# Altium integrated library National Semiconductor Interface.IntLib: 1433 symbols (part 41 of 51)
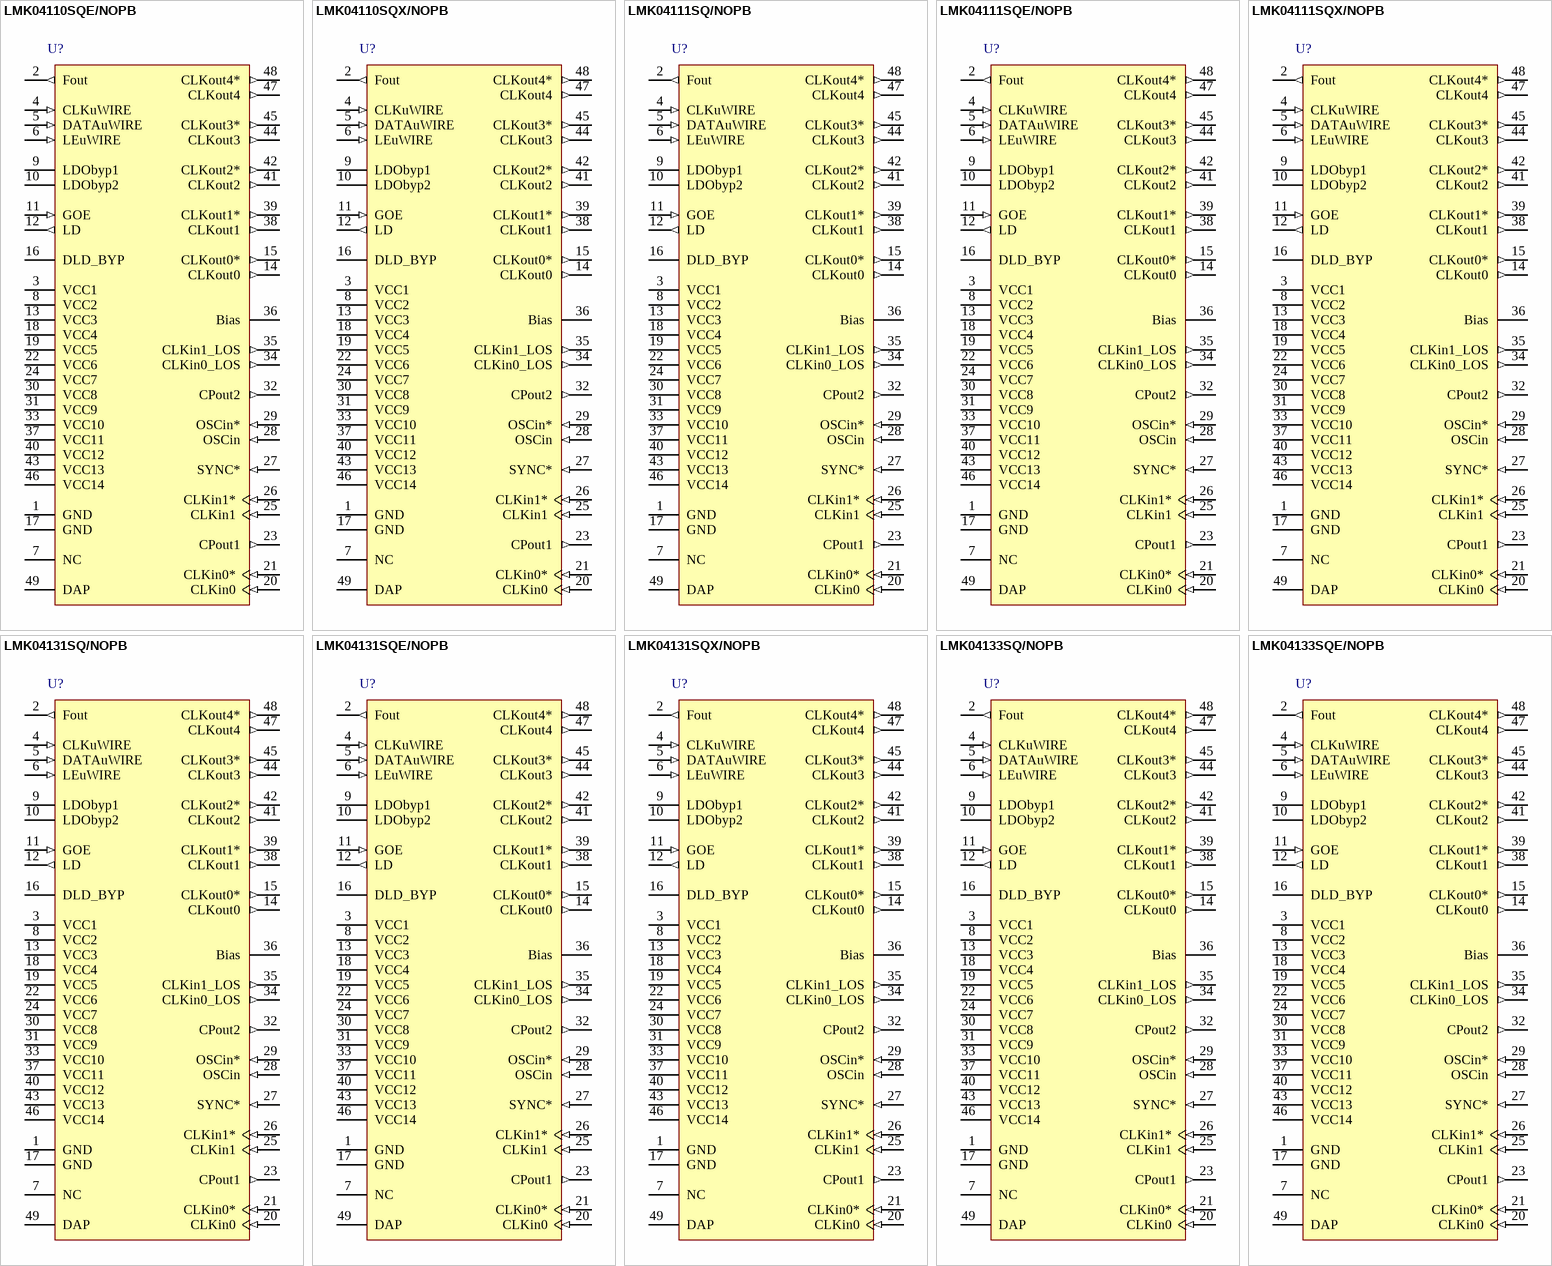
[diagram p164: symbols LMK04110SQE/NOPB to LMK04133SQE/NOPB]

## LMK04110SQE/NOPB
designator U?
Clock Jitter Cleaner with Cascaded PLLs, 1.2 GHz VCO, 48-pin LLP, 250 Reel; PartNumber: LMK04110SQE/NOPB; Manufacturer: National Semiconductor; PackageTopMarking: NS*UZXYTTE#*LMK04110; PowerWise: Y; CompType: Interface IC; DatasheetVersion: Sep-2011; PackageVersion: revB, May-2009; PackageReference: SQA48A; PackageDescription: LLP, Plastic, Quad, 7 x 7 x 0.8mm Body, 48 Lead, 0.5mm Pitch, No Pullback; RoHS: Y; PinCount: 48; High-Reliability: Y; Code_JEDEC: MO-220-WKKD-2; ComponentLink1Description: Manufacturer URL; ComponentLink1URL: http://www.national.com/; ComponentLink2Description: LMK04100 Family Datasheet; ComponentLink2URL: http://www.national.com/ds/LM/LMK04100.pdf; ComponentLink3Description: LMK04110 Web Page; ComponentLink3URL: http://www.national.com/pf/LM/LMK04110.html; ComponentLink4Description: SQA48A Package Page; ComponentLink4URL: http://www.national.com/packaging/folders/sqa48a.html
footprint SQA48A (QFN, 48-Leads, Body 7x7mm, Pitch 0.5mm, Thermal Pad 5.2x5.2mm, NSC Recommended)
pins: 1 GND (power), 2 Fout (out), 3 VCC1 (power), 4 CLKuWIRE (in), 5 DATAuWIRE (in), 6 LEuWIRE (in), 7 NC, 8 VCC2 (power), 9 LDObyp1, 10 LDObyp2, 11 GOE (in), 12 LD (out), 13 VCC3 (power), 14 CLKout0 (out), 15 CLKout0* (out), 16 DLD_BYP, 17 GND (power), 18 VCC4 (power), 19 VCC5 (power), 20 CLKin0 (in), 21 CLKin0* (in), 22 VCC6 (power), 23 CPout1 (out), 24 VCC7 (power), 25 CLKin1 (in), 26 CLKin1* (in), 27 SYNC* (in), 28 OSCin (in), 29 OSCin* (in), 30 VCC8 (power), 31 VCC9 (power), 32 CPout2 (out), 33 VCC10 (power), 34 CLKin0_LOS (out), 35 CLKin1_LOS (out), 36 Bias, 37 VCC11 (power), 38 CLKout1 (out), 39 CLKout1* (out), 40 VCC12 (power), 41 CLKout2 (out), 42 CLKout2* (out), 43 VCC13 (power), 44 CLKout3 (out), 45 CLKout3* (out), 46 VCC14 (power), 47 CLKout4 (out), 48 CLKout4* (out), 49 DAP (power)

## LMK04110SQX/NOPB
designator U?
Clock Jitter Cleaner with Cascaded PLLs, 1.2 GHz VCO, 48-pin LLP, 2500 Reel; PartNumber: LMK04110SQX/NOPB; Manufacturer: National Semiconductor; PackageTopMarking: NS*UZXYTTE#*LMK04110; PowerWise: Y; CompType: Interface IC; DatasheetVersion: Sep-2011; PackageVersion: revB, May-2009; PackageReference: SQA48A; PackageDescription: LLP, Plastic, Quad, 7 x 7 x 0.8mm Body, 48 Lead, 0.5mm Pitch, No Pullback; RoHS: Y; PinCount: 48; High-Reliability: Y; Code_JEDEC: MO-220-WKKD-2; ComponentLink1Description: Manufacturer URL; ComponentLink1URL: http://www.national.com/; ComponentLink2Description: LMK04100 Family Datasheet; ComponentLink2URL: http://www.national.com/ds/LM/LMK04100.pdf; ComponentLink3Description: LMK04110 Web Page; ComponentLink3URL: http://www.national.com/pf/LM/LMK04110.html; ComponentLink4Description: SQA48A Package Page; ComponentLink4URL: http://www.national.com/packaging/folders/sqa48a.html
footprint SQA48A (QFN, 48-Leads, Body 7x7mm, Pitch 0.5mm, Thermal Pad 5.2x5.2mm, NSC Recommended)
pins: 1 GND (power), 2 Fout (out), 3 VCC1 (power), 4 CLKuWIRE (in), 5 DATAuWIRE (in), 6 LEuWIRE (in), 7 NC, 8 VCC2 (power), 9 LDObyp1, 10 LDObyp2, 11 GOE (in), 12 LD (out), 13 VCC3 (power), 14 CLKout0 (out), 15 CLKout0* (out), 16 DLD_BYP, 17 GND (power), 18 VCC4 (power), 19 VCC5 (power), 20 CLKin0 (in), 21 CLKin0* (in), 22 VCC6 (power), 23 CPout1 (out), 24 VCC7 (power), 25 CLKin1 (in), 26 CLKin1* (in), 27 SYNC* (in), 28 OSCin (in), 29 OSCin* (in), 30 VCC8 (power), 31 VCC9 (power), 32 CPout2 (out), 33 VCC10 (power), 34 CLKin0_LOS (out), 35 CLKin1_LOS (out), 36 Bias, 37 VCC11 (power), 38 CLKout1 (out), 39 CLKout1* (out), 40 VCC12 (power), 41 CLKout2 (out), 42 CLKout2* (out), 43 VCC13 (power), 44 CLKout3 (out), 45 CLKout3* (out), 46 VCC14 (power), 47 CLKout4 (out), 48 CLKout4* (out), 49 DAP (power)

## LMK04111SQ/NOPB
designator U?
Clock Jitter Cleaner with Cascaded PLLs, 1.5 GHz VCO, 48-pin LLP, 1000 Reel; PartNumber: LMK04111SQ/NOPB; Manufacturer: National Semiconductor; PackageTopMarking: NS*UZXYTTE#*LMK04111; PowerWise: Y; CompType: Interface IC; DatasheetVersion: Sep-2011; PackageVersion: revB, May-2009; PackageReference: SQA48A; PackageDescription: LLP, Plastic, Quad, 7 x 7 x 0.8mm Body, 48 Lead, 0.5mm Pitch, No Pullback; RoHS: Y; PinCount: 48; High-Reliability: Y; Code_JEDEC: MO-220-WKKD-2; ComponentLink1Description: Manufacturer URL; ComponentLink1URL: http://www.national.com/; ComponentLink2Description: LMK04100 Family Datasheet; ComponentLink2URL: http://www.national.com/ds/LM/LMK04100.pdf; ComponentLink3Description: LMK04111 Web Page; ComponentLink3URL: http://www.national.com/pf/LM/LMK04111.html; ComponentLink4Description: SQA48A Package Page; ComponentLink4URL: http://www.national.com/packaging/folders/sqa48a.html
footprint SQA48A (QFN, 48-Leads, Body 7x7mm, Pitch 0.5mm, Thermal Pad 5.2x5.2mm, NSC Recommended)
pins: 1 GND (power), 2 Fout (out), 3 VCC1 (power), 4 CLKuWIRE (in), 5 DATAuWIRE (in), 6 LEuWIRE (in), 7 NC, 8 VCC2 (power), 9 LDObyp1, 10 LDObyp2, 11 GOE (in), 12 LD (out), 13 VCC3 (power), 14 CLKout0 (out), 15 CLKout0* (out), 16 DLD_BYP, 17 GND (power), 18 VCC4 (power), 19 VCC5 (power), 20 CLKin0 (in), 21 CLKin0* (in), 22 VCC6 (power), 23 CPout1 (out), 24 VCC7 (power), 25 CLKin1 (in), 26 CLKin1* (in), 27 SYNC* (in), 28 OSCin (in), 29 OSCin* (in), 30 VCC8 (power), 31 VCC9 (power), 32 CPout2 (out), 33 VCC10 (power), 34 CLKin0_LOS (out), 35 CLKin1_LOS (out), 36 Bias, 37 VCC11 (power), 38 CLKout1 (out), 39 CLKout1* (out), 40 VCC12 (power), 41 CLKout2 (out), 42 CLKout2* (out), 43 VCC13 (power), 44 CLKout3 (out), 45 CLKout3* (out), 46 VCC14 (power), 47 CLKout4 (out), 48 CLKout4* (out), 49 DAP (power)

## LMK04111SQE/NOPB
designator U?
Clock Jitter Cleaner with Cascaded PLLs, 1.5 GHz VCO, 48-pin LLP, 250 Reel; PartNumber: LMK04111SQE/NOPB; Manufacturer: National Semiconductor; PackageTopMarking: NS*UZXYTTE#*LMK04111; PowerWise: Y; CompType: Interface IC; DatasheetVersion: Sep-2011; PackageVersion: revB, May-2009; PackageReference: SQA48A; PackageDescription: LLP, Plastic, Quad, 7 x 7 x 0.8mm Body, 48 Lead, 0.5mm Pitch, No Pullback; RoHS: Y; PinCount: 48; High-Reliability: Y; Code_JEDEC: MO-220-WKKD-2; ComponentLink1Description: Manufacturer URL; ComponentLink1URL: http://www.national.com/; ComponentLink2Description: LMK04100 Family Datasheet; ComponentLink2URL: http://www.national.com/ds/LM/LMK04100.pdf; ComponentLink3Description: LMK04111 Web Page; ComponentLink3URL: http://www.national.com/pf/LM/LMK04111.html; ComponentLink4Description: SQA48A Package Page; ComponentLink4URL: http://www.national.com/packaging/folders/sqa48a.html
footprint SQA48A (QFN, 48-Leads, Body 7x7mm, Pitch 0.5mm, Thermal Pad 5.2x5.2mm, NSC Recommended)
pins: 1 GND (power), 2 Fout (out), 3 VCC1 (power), 4 CLKuWIRE (in), 5 DATAuWIRE (in), 6 LEuWIRE (in), 7 NC, 8 VCC2 (power), 9 LDObyp1, 10 LDObyp2, 11 GOE (in), 12 LD (out), 13 VCC3 (power), 14 CLKout0 (out), 15 CLKout0* (out), 16 DLD_BYP, 17 GND (power), 18 VCC4 (power), 19 VCC5 (power), 20 CLKin0 (in), 21 CLKin0* (in), 22 VCC6 (power), 23 CPout1 (out), 24 VCC7 (power), 25 CLKin1 (in), 26 CLKin1* (in), 27 SYNC* (in), 28 OSCin (in), 29 OSCin* (in), 30 VCC8 (power), 31 VCC9 (power), 32 CPout2 (out), 33 VCC10 (power), 34 CLKin0_LOS (out), 35 CLKin1_LOS (out), 36 Bias, 37 VCC11 (power), 38 CLKout1 (out), 39 CLKout1* (out), 40 VCC12 (power), 41 CLKout2 (out), 42 CLKout2* (out), 43 VCC13 (power), 44 CLKout3 (out), 45 CLKout3* (out), 46 VCC14 (power), 47 CLKout4 (out), 48 CLKout4* (out), 49 DAP (power)

## LMK04111SQX/NOPB
designator U?
Clock Jitter Cleaner with Cascaded PLLs, 1.5 GHz VCO, 48-pin LLP, 2500 Reel; PartNumber: LMK04111SQX/NOPB; Manufacturer: National Semiconductor; PackageTopMarking: NS*UZXYTTE#*LMK04111; PowerWise: Y; CompType: Interface IC; DatasheetVersion: Sep-2011; PackageVersion: revB, May-2009; PackageReference: SQA48A; PackageDescription: LLP, Plastic, Quad, 7 x 7 x 0.8mm Body, 48 Lead, 0.5mm Pitch, No Pullback; RoHS: Y; PinCount: 48; High-Reliability: Y; Code_JEDEC: MO-220-WKKD-2; ComponentLink1Description: Manufacturer URL; ComponentLink1URL: http://www.national.com/; ComponentLink2Description: LMK04100 Family Datasheet; ComponentLink2URL: http://www.national.com/ds/LM/LMK04100.pdf; ComponentLink3Description: LMK04111 Web Page; ComponentLink3URL: http://www.national.com/pf/LM/LMK04111.html; ComponentLink4Description: SQA48A Package Page; ComponentLink4URL: http://www.national.com/packaging/folders/sqa48a.html
footprint SQA48A (QFN, 48-Leads, Body 7x7mm, Pitch 0.5mm, Thermal Pad 5.2x5.2mm, NSC Recommended)
pins: 1 GND (power), 2 Fout (out), 3 VCC1 (power), 4 CLKuWIRE (in), 5 DATAuWIRE (in), 6 LEuWIRE (in), 7 NC, 8 VCC2 (power), 9 LDObyp1, 10 LDObyp2, 11 GOE (in), 12 LD (out), 13 VCC3 (power), 14 CLKout0 (out), 15 CLKout0* (out), 16 DLD_BYP, 17 GND (power), 18 VCC4 (power), 19 VCC5 (power), 20 CLKin0 (in), 21 CLKin0* (in), 22 VCC6 (power), 23 CPout1 (out), 24 VCC7 (power), 25 CLKin1 (in), 26 CLKin1* (in), 27 SYNC* (in), 28 OSCin (in), 29 OSCin* (in), 30 VCC8 (power), 31 VCC9 (power), 32 CPout2 (out), 33 VCC10 (power), 34 CLKin0_LOS (out), 35 CLKin1_LOS (out), 36 Bias, 37 VCC11 (power), 38 CLKout1 (out), 39 CLKout1* (out), 40 VCC12 (power), 41 CLKout2 (out), 42 CLKout2* (out), 43 VCC13 (power), 44 CLKout3 (out), 45 CLKout3* (out), 46 VCC14 (power), 47 CLKout4 (out), 48 CLKout4* (out), 49 DAP (power)

## LMK04131SQ/NOPB
designator U?
Clock Jitter Cleaner with Cascaded PLLs, 1.5 GHz VCO, 48-pin LLP, 1000 Reel; PartNumber: LMK04131SQ/NOPB; Manufacturer: National Semiconductor; PackageTopMarking: NS*UZXYTTE#*LMK04131; PowerWise: Y; CompType: Interface IC; DatasheetVersion: Sep-2011; PackageVersion: revB, May-2009; PackageReference: SQA48A; PackageDescription: LLP, Plastic, Quad, 7 x 7 x 0.8mm Body, 48 Lead, 0.5mm Pitch, No Pullback; RoHS: Y; PinCount: 48; High-Reliability: Y; Code_JEDEC: MO-220-WKKD-2; ComponentLink1Description: Manufacturer URL; ComponentLink1URL: http://www.national.com/; ComponentLink2Description: LMK04100 Family Datasheet; ComponentLink2URL: http://www.national.com/ds/LM/LMK04100.pdf; ComponentLink3Description: LMK04131 Web Page; ComponentLink3URL: http://www.national.com/pf/LM/LMK04131.html; ComponentLink4Description: SQA48A Package Page; ComponentLink4URL: http://www.national.com/packaging/folders/sqa48a.html
footprint SQA48A (QFN, 48-Leads, Body 7x7mm, Pitch 0.5mm, Thermal Pad 5.2x5.2mm, NSC Recommended)
pins: 1 GND (power), 2 Fout (out), 3 VCC1 (power), 4 CLKuWIRE (in), 5 DATAuWIRE (in), 6 LEuWIRE (in), 7 NC, 8 VCC2 (power), 9 LDObyp1, 10 LDObyp2, 11 GOE (in), 12 LD (out), 13 VCC3 (power), 14 CLKout0 (out), 15 CLKout0* (out), 16 DLD_BYP, 17 GND (power), 18 VCC4 (power), 19 VCC5 (power), 20 CLKin0 (in), 21 CLKin0* (in), 22 VCC6 (power), 23 CPout1 (out), 24 VCC7 (power), 25 CLKin1 (in), 26 CLKin1* (in), 27 SYNC* (in), 28 OSCin (in), 29 OSCin* (in), 30 VCC8 (power), 31 VCC9 (power), 32 CPout2 (out), 33 VCC10 (power), 34 CLKin0_LOS (out), 35 CLKin1_LOS (out), 36 Bias, 37 VCC11 (power), 38 CLKout1 (out), 39 CLKout1* (out), 40 VCC12 (power), 41 CLKout2 (out), 42 CLKout2* (out), 43 VCC13 (power), 44 CLKout3 (out), 45 CLKout3* (out), 46 VCC14 (power), 47 CLKout4 (out), 48 CLKout4* (out), 49 DAP (power)

## LMK04131SQE/NOPB
designator U?
Clock Jitter Cleaner with Cascaded PLLs, 1.5 GHz VCO, 48-pin LLP, 250 Reel; PartNumber: LMK04131SQE/NOPB; Manufacturer: National Semiconductor; PackageTopMarking: NS*UZXYTTE#*LMK04131; PowerWise: Y; CompType: Interface IC; DatasheetVersion: Sep-2011; PackageVersion: revB, May-2009; PackageReference: SQA48A; PackageDescription: LLP, Plastic, Quad, 7 x 7 x 0.8mm Body, 48 Lead, 0.5mm Pitch, No Pullback; RoHS: Y; PinCount: 48; High-Reliability: Y; Code_JEDEC: MO-220-WKKD-2; ComponentLink1Description: Manufacturer URL; ComponentLink1URL: http://www.national.com/; ComponentLink2Description: LMK04100 Family Datasheet; ComponentLink2URL: http://www.national.com/ds/LM/LMK04100.pdf; ComponentLink3Description: LMK04131 Web Page; ComponentLink3URL: http://www.national.com/pf/LM/LMK04131.html; ComponentLink4Description: SQA48A Package Page; ComponentLink4URL: http://www.national.com/packaging/folders/sqa48a.html
footprint SQA48A (QFN, 48-Leads, Body 7x7mm, Pitch 0.5mm, Thermal Pad 5.2x5.2mm, NSC Recommended)
pins: 1 GND (power), 2 Fout (out), 3 VCC1 (power), 4 CLKuWIRE (in), 5 DATAuWIRE (in), 6 LEuWIRE (in), 7 NC, 8 VCC2 (power), 9 LDObyp1, 10 LDObyp2, 11 GOE (in), 12 LD (out), 13 VCC3 (power), 14 CLKout0 (out), 15 CLKout0* (out), 16 DLD_BYP, 17 GND (power), 18 VCC4 (power), 19 VCC5 (power), 20 CLKin0 (in), 21 CLKin0* (in), 22 VCC6 (power), 23 CPout1 (out), 24 VCC7 (power), 25 CLKin1 (in), 26 CLKin1* (in), 27 SYNC* (in), 28 OSCin (in), 29 OSCin* (in), 30 VCC8 (power), 31 VCC9 (power), 32 CPout2 (out), 33 VCC10 (power), 34 CLKin0_LOS (out), 35 CLKin1_LOS (out), 36 Bias, 37 VCC11 (power), 38 CLKout1 (out), 39 CLKout1* (out), 40 VCC12 (power), 41 CLKout2 (out), 42 CLKout2* (out), 43 VCC13 (power), 44 CLKout3 (out), 45 CLKout3* (out), 46 VCC14 (power), 47 CLKout4 (out), 48 CLKout4* (out), 49 DAP (power)

## LMK04131SQX/NOPB
designator U?
Clock Jitter Cleaner with Cascaded PLLs, 1.5 GHz VCO, 48-pin LLP, 2500 Reel; PartNumber: LMK04131SQX/NOPB; Manufacturer: National Semiconductor; PackageTopMarking: NS*UZXYTTE#*LMK04131; PowerWise: Y; CompType: Interface IC; DatasheetVersion: Sep-2011; PackageVersion: revB, May-2009; PackageReference: SQA48A; PackageDescription: LLP, Plastic, Quad, 7 x 7 x 0.8mm Body, 48 Lead, 0.5mm Pitch, No Pullback; RoHS: Y; PinCount: 48; High-Reliability: Y; Code_JEDEC: MO-220-WKKD-2; ComponentLink1Description: Manufacturer URL; ComponentLink1URL: http://www.national.com/; ComponentLink2Description: LMK04100 Family Datasheet; ComponentLink2URL: http://www.national.com/ds/LM/LMK04100.pdf; ComponentLink3Description: LMK04131 Web Page; ComponentLink3URL: http://www.national.com/pf/LM/LMK04131.html; ComponentLink4Description: SQA48A Package Page; ComponentLink4URL: http://www.national.com/packaging/folders/sqa48a.html
footprint SQA48A (QFN, 48-Leads, Body 7x7mm, Pitch 0.5mm, Thermal Pad 5.2x5.2mm, NSC Recommended)
pins: 1 GND (power), 2 Fout (out), 3 VCC1 (power), 4 CLKuWIRE (in), 5 DATAuWIRE (in), 6 LEuWIRE (in), 7 NC, 8 VCC2 (power), 9 LDObyp1, 10 LDObyp2, 11 GOE (in), 12 LD (out), 13 VCC3 (power), 14 CLKout0 (out), 15 CLKout0* (out), 16 DLD_BYP, 17 GND (power), 18 VCC4 (power), 19 VCC5 (power), 20 CLKin0 (in), 21 CLKin0* (in), 22 VCC6 (power), 23 CPout1 (out), 24 VCC7 (power), 25 CLKin1 (in), 26 CLKin1* (in), 27 SYNC* (in), 28 OSCin (in), 29 OSCin* (in), 30 VCC8 (power), 31 VCC9 (power), 32 CPout2 (out), 33 VCC10 (power), 34 CLKin0_LOS (out), 35 CLKin1_LOS (out), 36 Bias, 37 VCC11 (power), 38 CLKout1 (out), 39 CLKout1* (out), 40 VCC12 (power), 41 CLKout2 (out), 42 CLKout2* (out), 43 VCC13 (power), 44 CLKout3 (out), 45 CLKout3* (out), 46 VCC14 (power), 47 CLKout4 (out), 48 CLKout4* (out), 49 DAP (power)

## LMK04133SQ/NOPB
designator U?
Clock Jitter Cleaner with Cascaded PLLs, 2.0 GHz VCO, 48-pin LLP, 1000 Reel; PartNumber: LMK04133SQ/NOPB; Manufacturer: National Semiconductor; PackageTopMarking: NS*UZXYTTE#*LMK04133; PowerWise: Y; CompType: Interface IC; DatasheetVersion: Sep-2011; PackageVersion: revB, May-2009; PackageReference: SQA48A; PackageDescription: LLP, Plastic, Quad, 7 x 7 x 0.8mm Body, 48 Lead, 0.5mm Pitch, No Pullback; RoHS: Y; PinCount: 48; High-Reliability: Y; Code_JEDEC: MO-220-WKKD-2; ComponentLink1Description: Manufacturer URL; ComponentLink1URL: http://www.national.com/; ComponentLink2Description: LMK04100 Family Datasheet; ComponentLink2URL: http://www.national.com/ds/LM/LMK04100.pdf; ComponentLink3Description: LMK04133 Web Page; ComponentLink3URL: http://www.national.com/pf/LM/LMK04133.html; ComponentLink4Description: SQA48A Package Page; ComponentLink4URL: http://www.national.com/packaging/folders/sqa48a.html
footprint SQA48A (QFN, 48-Leads, Body 7x7mm, Pitch 0.5mm, Thermal Pad 5.2x5.2mm, NSC Recommended)
pins: 1 GND (power), 2 Fout (out), 3 VCC1 (power), 4 CLKuWIRE (in), 5 DATAuWIRE (in), 6 LEuWIRE (in), 7 NC, 8 VCC2 (power), 9 LDObyp1, 10 LDObyp2, 11 GOE (in), 12 LD (out), 13 VCC3 (power), 14 CLKout0 (out), 15 CLKout0* (out), 16 DLD_BYP, 17 GND (power), 18 VCC4 (power), 19 VCC5 (power), 20 CLKin0 (in), 21 CLKin0* (in), 22 VCC6 (power), 23 CPout1 (out), 24 VCC7 (power), 25 CLKin1 (in), 26 CLKin1* (in), 27 SYNC* (in), 28 OSCin (in), 29 OSCin* (in), 30 VCC8 (power), 31 VCC9 (power), 32 CPout2 (out), 33 VCC10 (power), 34 CLKin0_LOS (out), 35 CLKin1_LOS (out), 36 Bias, 37 VCC11 (power), 38 CLKout1 (out), 39 CLKout1* (out), 40 VCC12 (power), 41 CLKout2 (out), 42 CLKout2* (out), 43 VCC13 (power), 44 CLKout3 (out), 45 CLKout3* (out), 46 VCC14 (power), 47 CLKout4 (out), 48 CLKout4* (out), 49 DAP (power)

## LMK04133SQE/NOPB
designator U?
Clock Jitter Cleaner with Cascaded PLLs, 2.0 GHz VCO, 48-pin LLP, 250 Reel; PartNumber: LMK04133SQE/NOPB; Manufacturer: National Semiconductor; PackageTopMarking: NS*UZXYTTE#*LMK04133; PowerWise: Y; CompType: Interface IC; DatasheetVersion: Sep-2011; PackageVersion: revB, May-2009; PackageReference: SQA48A; PackageDescription: LLP, Plastic, Quad, 7 x 7 x 0.8mm Body, 48 Lead, 0.5mm Pitch, No Pullback; RoHS: Y; PinCount: 48; High-Reliability: Y; Code_JEDEC: MO-220-WKKD-2; ComponentLink1Description: Manufacturer URL; ComponentLink1URL: http://www.national.com/; ComponentLink2Description: LMK04100 Family Datasheet; ComponentLink2URL: http://www.national.com/ds/LM/LMK04100.pdf; ComponentLink3Description: LMK04133 Web Page; ComponentLink3URL: http://www.national.com/pf/LM/LMK04133.html; ComponentLink4Description: SQA48A Package Page; ComponentLink4URL: http://www.national.com/packaging/folders/sqa48a.html
footprint SQA48A (QFN, 48-Leads, Body 7x7mm, Pitch 0.5mm, Thermal Pad 5.2x5.2mm, NSC Recommended)
pins: 1 GND (power), 2 Fout (out), 3 VCC1 (power), 4 CLKuWIRE (in), 5 DATAuWIRE (in), 6 LEuWIRE (in), 7 NC, 8 VCC2 (power), 9 LDObyp1, 10 LDObyp2, 11 GOE (in), 12 LD (out), 13 VCC3 (power), 14 CLKout0 (out), 15 CLKout0* (out), 16 DLD_BYP, 17 GND (power), 18 VCC4 (power), 19 VCC5 (power), 20 CLKin0 (in), 21 CLKin0* (in), 22 VCC6 (power), 23 CPout1 (out), 24 VCC7 (power), 25 CLKin1 (in), 26 CLKin1* (in), 27 SYNC* (in), 28 OSCin (in), 29 OSCin* (in), 30 VCC8 (power), 31 VCC9 (power), 32 CPout2 (out), 33 VCC10 (power), 34 CLKin0_LOS (out), 35 CLKin1_LOS (out), 36 Bias, 37 VCC11 (power), 38 CLKout1 (out), 39 CLKout1* (out), 40 VCC12 (power), 41 CLKout2 (out), 42 CLKout2* (out), 43 VCC13 (power), 44 CLKout3 (out), 45 CLKout3* (out), 46 VCC14 (power), 47 CLKout4 (out), 48 CLKout4* (out), 49 DAP (power)

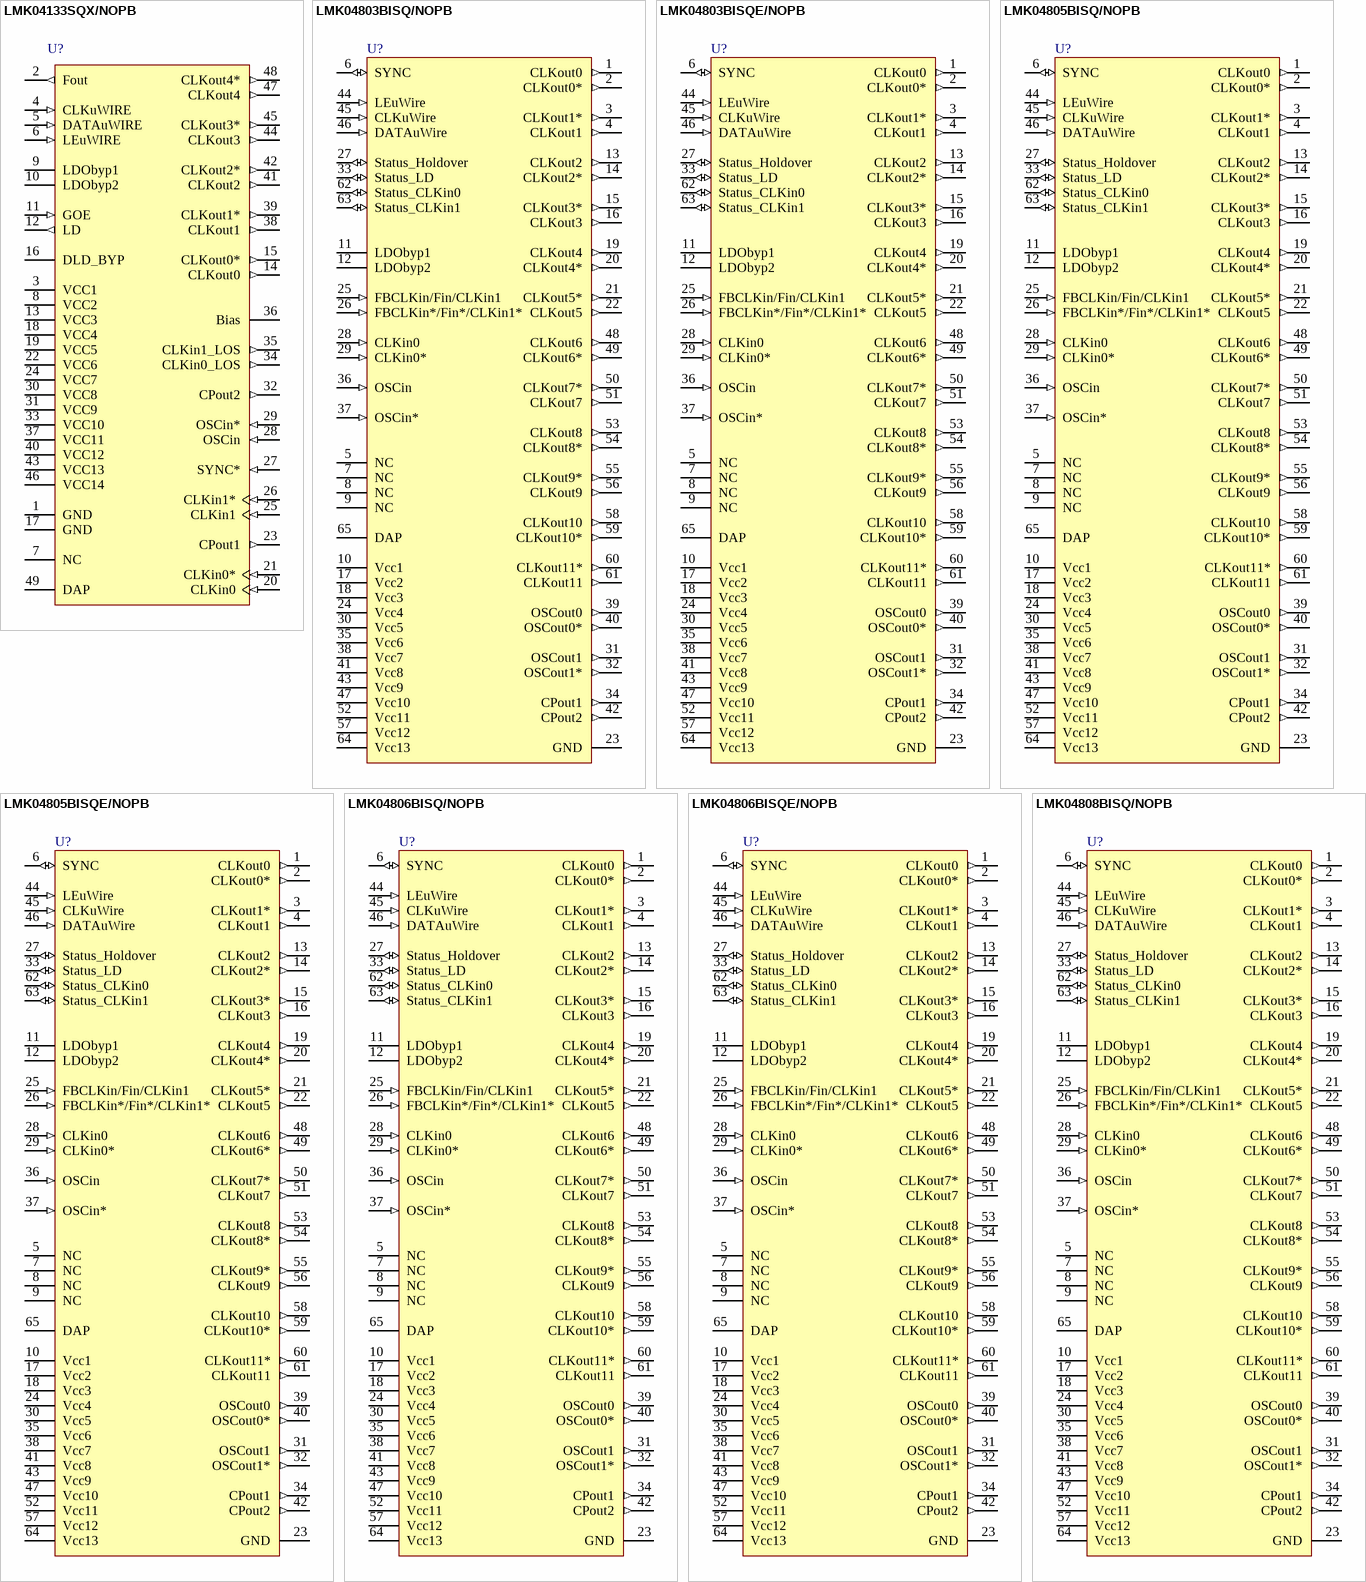
[diagram p102: symbols LMK04133SQX/NOPB to LMK04808BISQ/NOPB]

## LMK04133SQX/NOPB
designator U?
Clock Jitter Cleaner with Cascaded PLLs, 2.0 GHz VCO, 48-pin LLP, 2500 Reel; PartNumber: LMK04133SQX/NOPB; Manufacturer: National Semiconductor; PackageTopMarking: NS*UZXYTTE#*LMK04133; PowerWise: Y; CompType: Interface IC; DatasheetVersion: Sep-2011; PackageVersion: revB, May-2009; PackageReference: SQA48A; PackageDescription: LLP, Plastic, Quad, 7 x 7 x 0.8mm Body, 48 Lead, 0.5mm Pitch, No Pullback; RoHS: Y; PinCount: 48; High-Reliability: Y; Code_JEDEC: MO-220-WKKD-2; ComponentLink1Description: Manufacturer URL; ComponentLink1URL: http://www.national.com/; ComponentLink2Description: LMK04100 Family Datasheet; ComponentLink2URL: http://www.national.com/ds/LM/LMK04100.pdf; ComponentLink3Description: LMK04133 Web Page; ComponentLink3URL: http://www.national.com/pf/LM/LMK04133.html; ComponentLink4Description: SQA48A Package Page; ComponentLink4URL: http://www.national.com/packaging/folders/sqa48a.html
footprint SQA48A (QFN, 48-Leads, Body 7x7mm, Pitch 0.5mm, Thermal Pad 5.2x5.2mm, NSC Recommended)
pins: 1 GND (power), 2 Fout (out), 3 VCC1 (power), 4 CLKuWIRE (in), 5 DATAuWIRE (in), 6 LEuWIRE (in), 7 NC, 8 VCC2 (power), 9 LDObyp1, 10 LDObyp2, 11 GOE (in), 12 LD (out), 13 VCC3 (power), 14 CLKout0 (out), 15 CLKout0* (out), 16 DLD_BYP, 17 GND (power), 18 VCC4 (power), 19 VCC5 (power), 20 CLKin0 (in), 21 CLKin0* (in), 22 VCC6 (power), 23 CPout1 (out), 24 VCC7 (power), 25 CLKin1 (in), 26 CLKin1* (in), 27 SYNC* (in), 28 OSCin (in), 29 OSCin* (in), 30 VCC8 (power), 31 VCC9 (power), 32 CPout2 (out), 33 VCC10 (power), 34 CLKin0_LOS (out), 35 CLKin1_LOS (out), 36 Bias, 37 VCC11 (power), 38 CLKout1 (out), 39 CLKout1* (out), 40 VCC12 (power), 41 CLKout2 (out), 42 CLKout2* (out), 43 VCC13 (power), 44 CLKout3 (out), 45 CLKout3* (out), 46 VCC14 (power), 47 CLKout4 (out), 48 CLKout4* (out), 49 DAP (power)

## LMK04803BISQ/NOPB
designator U?
Precision Clock Conditioners Low-Noise Clock Jitter Cleaner with Dual Loop PLLs, 1840-2030MHz VCO, 64-pin LLP, 1000 Reel; PartNumber: LMK04803BISQ/NOPB; Manufacturer: National Semiconductor; PackageTopMarking: NS*UZXYTTE#*K04803BISQ; PowerWise: N; CompType: Interface IC; High-Reliability: Y; DatasheetVersion: Mar-2011; PackageVersion: revA, Apr-2006; PackageReference: SQA64A; PackageDescription: LLP, Quad, 9 x 9 x 0.8mm, 64 Lead, 0.5mm Pitch, No Pullback; RoHS: Y; PinCount: 64; ComponentLink1Description: Manufacturer URL; ComponentLink1URL: http://www.national.com/; ComponentLink2Description: LMK04800 Datasheet; ComponentLink2URL: http://www.national.com/ds/LM/LMK04800.pdf; ComponentLink3Description: LMK04800 Web Page; ComponentLink3URL: http://www.national.com/pf/LM/LMK04800.html; ComponentLink4Description: SQA64A Package Page; ComponentLink4URL: http://www.national.com/packaging/folders/sqa64a.html
footprint SQA64A (QFN, 64-Leads, Body 9x9mm, Pitch 0.5mm, Thermal Pad 7.2x7.2mm, NSC Recommended)
pins: 1 CLKout0 (out) "Clock output 0 (clock group 0).", 2 CLKout0* (out) "Clock output 0 (clock group 0).", 3 CLKout1* (out) "Clock output 1 (clock group 0).", 4 CLKout1 (out) "Clock output 1 (clock group 0).", 5 NC (power) "No Connection. This pin must be left floating.", 6 SYNC (io) "CLKout Synchronization input or programmable status pin.", 7 NC (power) "No Connection. This pin must be left floating.", 8 NC (power) "No Connection. This pin must be left floating.", 9 NC (power) "No Connection. This pin must be left floating.", 10 Vcc1 (power) "Power supply for VCO LDO.", 11 LDObyp1 (power) "LDO Bypass, bypassed to ground with 10 µF capacitor.", 12 LDObyp2 (power) "LDO Bypass, bypassed to ground with a 0.1 µF capacitor.", 13 CLKout2 (out) "Clock output 2 (clock group 1).", 14 CLKout2* (out) "Clock output 2 (clock group 1).", 15 CLKout3* (out) "Clock output 3 (clock group 1).", 16 CLKout3 (out) "Clock output 3 (clock group 1).", 17 Vcc2 (power) "Power supply for clock group 1: CLKout2 and CLKout3.", 18 Vcc3 (power) "Power supply for clock group 2: CLKout4 and CLKout5.", 19 CLKout4 (out) "Clock output 4 (clock group 2).", 20 CLKout4* (out) "Clock output 4 (clock group 2).", 21 CLKout5* (out) "Clock output 5 (clock group 2).", 22 CLKout5 (out) "Clock output 5 (clock group 2).", 23 GND (power) "Ground", 24 Vcc4 (power) "Power supply for digital.", 25 FBCLKin/Fin/CLKin1 (in) "Reference Clock Input Port 1 for PLL1. Feedback input for external clock feedback input (0-delay mode). External VCO input (External VCO mode). AC or DC Coupled.", 26 FBCLKin*/Fin*/CLKin1* (in) "Reference Clock Input Port 1 for PLL1. Feedback input for external clock feedback input (0-delay mode). External VCO input (External VCO mode). AC or DC Coupled.", 27 Status_Holdover (io) "Programmable status pin, default readback output. Programmable to holdover mode indicator.", 28 CLKin0 (in) "Reference Clock Input Port 0 for PLL1. AC or DC Coupled.", 29 CLKin0* (in) "Reference Clock Input Port 0 for PLL1. AC or DC Coupled.", 30 Vcc5 (power) "Power supply for clock inputs.", 31 OSCout1 (out) "Buffered output 1 of OSCin port.", 32 OSCout1* (out) "Buffered output 1 of OSCin port.", 33 Status_LD (io) "Programmable status pin, default lock detect for PLL1 and PLL2.", 34 CPout1 (out) "Charge pump 1 output.", 35 Vcc6 (power) "Power supply for PLL1, charge pump 1.", 36 OSCin (in) "Feedback to PLL1, Reference input to PLL2. AC Coupled.", 37 OSCin* (in) "Feedback to PLL1, Reference input to PLL2. AC Coupled.", 38 Vcc7 (power) "Power supply for OSCin port.", 39 OSCout0 (out) "Buffered output 0 of OSCin port.", 40 OSCout0* (out) "Buffered output 0 of OSCin port.", 41 Vcc8 (power) "Power supply for PLL2, charge pump 2.", 42 CPout2 (out) "Charge pump 2 output.", 43 Vcc9 (power) "Power supply for PLL2.", 44 LEuWire (in) "MICROWIRE Latch Enable Input.", 45 CLKuWire (in) "MICROWIRE Clock Input.", 46 DATAuWire (in) "MICROWIRE Data Input.", 47 Vcc10 (power) "Power supply for clock group 3: CLKout6 and CLKout7.", 48 CLKout6 (out) "Clock output 6 (clock group 3).", 49 CLKout6* (out) "Clock output 6 (clock group 3).", 50 CLKout7* (out) "Clock output 7 (clock group 3).", 51 CLKout7 (out) "Clock output 7 (clock group 3).", 52 Vcc11 (power) "Power supply for clock group 4: CLKout8 and CLKout9.", 53 CLKout8 (out) "Clock output 8 (clock group 4).", 54 CLKout8* (out) "Clock output 8 (clock group 4).", 55 CLKout9* (out) "Clock output 9 (clock group 4).", 56 CLKout9 (out) "Clock output 9 (clock group 4).", 57 Vcc12 (power) "Power supply for clock group 5: CLKout10 and CLKout11.", 58 CLKout10 (out) "Clock output 10 (clock group 5).", 59 CLKout10* (out) "Clock output 10 (clock group 5).", 60 CLKout11* (out) "Clock output 11 (clock group 5).", 61 CLKout11 (out) "Clock output 11 (clock group 5).", 62 Status_CLKin0 (io) "Programmable status pin. Default is input for pin control of PLL1 reference clock selection.", 63 Status_CLKin1 (io) "Programmable status pin. Default is input for pin control of PLL1 reference clock selection.", 64 Vcc13 (power) "Power supply for clock group 0: CLKout0 and CLKout1.", 65 DAP (power) "Die attach pad, connect to GND."

## LMK04803BISQE/NOPB
designator U?
Precision Clock Conditioners Low-Noise Clock Jitter Cleaner with Dual Loop PLLs, 1840-2030MHz VCO, 64-pin LLP, 250 Reel; PartNumber: LMK04803BISQE/NOPB; Manufacturer: National Semiconductor; PackageTopMarking: NS*UZXYTTE#*K04803BISQ; PowerWise: N; CompType: Interface IC; High-Reliability: Y; DatasheetVersion: Mar-2011; PackageVersion: revA, Apr-2006; PackageReference: SQA64A; PackageDescription: LLP, Quad, 9 x 9 x 0.8mm, 64 Lead, 0.5mm Pitch, No Pullback; RoHS: Y; PinCount: 64; ComponentLink1Description: Manufacturer URL; ComponentLink1URL: http://www.national.com/; ComponentLink2Description: LMK04800 Datasheet; ComponentLink2URL: http://www.national.com/ds/LM/LMK04800.pdf; ComponentLink3Description: LMK04800 Web Page; ComponentLink3URL: http://www.national.com/pf/LM/LMK04800.html; ComponentLink4Description: SQA64A Package Page; ComponentLink4URL: http://www.national.com/packaging/folders/sqa64a.html
footprint SQA64A (QFN, 64-Leads, Body 9x9mm, Pitch 0.5mm, Thermal Pad 7.2x7.2mm, NSC Recommended)
pins: 1 CLKout0 (out) "Clock output 0 (clock group 0).", 2 CLKout0* (out) "Clock output 0 (clock group 0).", 3 CLKout1* (out) "Clock output 1 (clock group 0).", 4 CLKout1 (out) "Clock output 1 (clock group 0).", 5 NC (power) "No Connection. This pin must be left floating.", 6 SYNC (io) "CLKout Synchronization input or programmable status pin.", 7 NC (power) "No Connection. This pin must be left floating.", 8 NC (power) "No Connection. This pin must be left floating.", 9 NC (power) "No Connection. This pin must be left floating.", 10 Vcc1 (power) "Power supply for VCO LDO.", 11 LDObyp1 (power) "LDO Bypass, bypassed to ground with 10 µF capacitor.", 12 LDObyp2 (power) "LDO Bypass, bypassed to ground with a 0.1 µF capacitor.", 13 CLKout2 (out) "Clock output 2 (clock group 1).", 14 CLKout2* (out) "Clock output 2 (clock group 1).", 15 CLKout3* (out) "Clock output 3 (clock group 1).", 16 CLKout3 (out) "Clock output 3 (clock group 1).", 17 Vcc2 (power) "Power supply for clock group 1: CLKout2 and CLKout3.", 18 Vcc3 (power) "Power supply for clock group 2: CLKout4 and CLKout5.", 19 CLKout4 (out) "Clock output 4 (clock group 2).", 20 CLKout4* (out) "Clock output 4 (clock group 2).", 21 CLKout5* (out) "Clock output 5 (clock group 2).", 22 CLKout5 (out) "Clock output 5 (clock group 2).", 23 GND (power) "Ground", 24 Vcc4 (power) "Power supply for digital.", 25 FBCLKin/Fin/CLKin1 (in) "Reference Clock Input Port 1 for PLL1. Feedback input for external clock feedback input (0-delay mode). External VCO input (External VCO mode). AC or DC Coupled.", 26 FBCLKin*/Fin*/CLKin1* (in) "Reference Clock Input Port 1 for PLL1. Feedback input for external clock feedback input (0-delay mode). External VCO input (External VCO mode). AC or DC Coupled.", 27 Status_Holdover (io) "Programmable status pin, default readback output. Programmable to holdover mode indicator.", 28 CLKin0 (in) "Reference Clock Input Port 0 for PLL1. AC or DC Coupled.", 29 CLKin0* (in) "Reference Clock Input Port 0 for PLL1. AC or DC Coupled.", 30 Vcc5 (power) "Power supply for clock inputs.", 31 OSCout1 (out) "Buffered output 1 of OSCin port.", 32 OSCout1* (out) "Buffered output 1 of OSCin port.", 33 Status_LD (io) "Programmable status pin, default lock detect for PLL1 and PLL2.", 34 CPout1 (out) "Charge pump 1 output.", 35 Vcc6 (power) "Power supply for PLL1, charge pump 1.", 36 OSCin (in) "Feedback to PLL1, Reference input to PLL2. AC Coupled.", 37 OSCin* (in) "Feedback to PLL1, Reference input to PLL2. AC Coupled.", 38 Vcc7 (power) "Power supply for OSCin port.", 39 OSCout0 (out) "Buffered output 0 of OSCin port.", 40 OSCout0* (out) "Buffered output 0 of OSCin port.", 41 Vcc8 (power) "Power supply for PLL2, charge pump 2.", 42 CPout2 (out) "Charge pump 2 output.", 43 Vcc9 (power) "Power supply for PLL2.", 44 LEuWire (in) "MICROWIRE Latch Enable Input.", 45 CLKuWire (in) "MICROWIRE Clock Input.", 46 DATAuWire (in) "MICROWIRE Data Input.", 47 Vcc10 (power) "Power supply for clock group 3: CLKout6 and CLKout7.", 48 CLKout6 (out) "Clock output 6 (clock group 3).", 49 CLKout6* (out) "Clock output 6 (clock group 3).", 50 CLKout7* (out) "Clock output 7 (clock group 3).", 51 CLKout7 (out) "Clock output 7 (clock group 3).", 52 Vcc11 (power) "Power supply for clock group 4: CLKout8 and CLKout9.", 53 CLKout8 (out) "Clock output 8 (clock group 4).", 54 CLKout8* (out) "Clock output 8 (clock group 4).", 55 CLKout9* (out) "Clock output 9 (clock group 4).", 56 CLKout9 (out) "Clock output 9 (clock group 4).", 57 Vcc12 (power) "Power supply for clock group 5: CLKout10 and CLKout11.", 58 CLKout10 (out) "Clock output 10 (clock group 5).", 59 CLKout10* (out) "Clock output 10 (clock group 5).", 60 CLKout11* (out) "Clock output 11 (clock group 5).", 61 CLKout11 (out) "Clock output 11 (clock group 5).", 62 Status_CLKin0 (io) "Programmable status pin. Default is input for pin control of PLL1 reference clock selection.", 63 Status_CLKin1 (io) "Programmable status pin. Default is input for pin control of PLL1 reference clock selection.", 64 Vcc13 (power) "Power supply for clock group 0: CLKout0 and CLKout1.", 65 DAP (power) "Die attach pad, connect to GND."

## LMK04805BISQ/NOPB
designator U?
Precision Clock Conditioners Low-Noise Clock Jitter Cleaner with Dual Loop PLLs, 2148-2370MHz VCO, 64-pin LLP, 1000 Reel; PartNumber: LMK04805BISQ/NOPB; Manufacturer: National Semiconductor; PackageTopMarking: NS*UZXYTTE#*K04805BISQ; PowerWise: N; CompType: Interface IC; High-Reliability: Y; DatasheetVersion: Mar-2011; PackageVersion: revA, Apr-2006; PackageReference: SQA64A; PackageDescription: LLP, Quad, 9 x 9 x 0.8mm, 64 Lead, 0.5mm Pitch, No Pullback; RoHS: Y; PinCount: 64; ComponentLink1Description: Manufacturer URL; ComponentLink1URL: http://www.national.com/; ComponentLink2Description: LMK04800 Datasheet; ComponentLink2URL: http://www.national.com/ds/LM/LMK04800.pdf; ComponentLink3Description: LMK04800 Web Page; ComponentLink3URL: http://www.national.com/pf/LM/LMK04800.html; ComponentLink4Description: SQA64A Package Page; ComponentLink4URL: http://www.national.com/packaging/folders/sqa64a.html
footprint SQA64A (QFN, 64-Leads, Body 9x9mm, Pitch 0.5mm, Thermal Pad 7.2x7.2mm, NSC Recommended)
pins: 1 CLKout0 (out) "Clock output 0 (clock group 0).", 2 CLKout0* (out) "Clock output 0 (clock group 0).", 3 CLKout1* (out) "Clock output 1 (clock group 0).", 4 CLKout1 (out) "Clock output 1 (clock group 0).", 5 NC (power) "No Connection. This pin must be left floating.", 6 SYNC (io) "CLKout Synchronization input or programmable status pin.", 7 NC (power) "No Connection. This pin must be left floating.", 8 NC (power) "No Connection. This pin must be left floating.", 9 NC (power) "No Connection. This pin must be left floating.", 10 Vcc1 (power) "Power supply for VCO LDO.", 11 LDObyp1 (power) "LDO Bypass, bypassed to ground with 10 µF capacitor.", 12 LDObyp2 (power) "LDO Bypass, bypassed to ground with a 0.1 µF capacitor.", 13 CLKout2 (out) "Clock output 2 (clock group 1).", 14 CLKout2* (out) "Clock output 2 (clock group 1).", 15 CLKout3* (out) "Clock output 3 (clock group 1).", 16 CLKout3 (out) "Clock output 3 (clock group 1).", 17 Vcc2 (power) "Power supply for clock group 1: CLKout2 and CLKout3.", 18 Vcc3 (power) "Power supply for clock group 2: CLKout4 and CLKout5.", 19 CLKout4 (out) "Clock output 4 (clock group 2).", 20 CLKout4* (out) "Clock output 4 (clock group 2).", 21 CLKout5* (out) "Clock output 5 (clock group 2).", 22 CLKout5 (out) "Clock output 5 (clock group 2).", 23 GND (power) "Ground", 24 Vcc4 (power) "Power supply for digital.", 25 FBCLKin/Fin/CLKin1 (in) "Reference Clock Input Port 1 for PLL1. Feedback input for external clock feedback input (0-delay mode). External VCO input (External VCO mode). AC or DC Coupled.", 26 FBCLKin*/Fin*/CLKin1* (in) "Reference Clock Input Port 1 for PLL1. Feedback input for external clock feedback input (0-delay mode). External VCO input (External VCO mode). AC or DC Coupled.", 27 Status_Holdover (io) "Programmable status pin, default readback output. Programmable to holdover mode indicator.", 28 CLKin0 (in) "Reference Clock Input Port 0 for PLL1. AC or DC Coupled.", 29 CLKin0* (in) "Reference Clock Input Port 0 for PLL1. AC or DC Coupled.", 30 Vcc5 (power) "Power supply for clock inputs.", 31 OSCout1 (out) "Buffered output 1 of OSCin port.", 32 OSCout1* (out) "Buffered output 1 of OSCin port.", 33 Status_LD (io) "Programmable status pin, default lock detect for PLL1 and PLL2.", 34 CPout1 (out) "Charge pump 1 output.", 35 Vcc6 (power) "Power supply for PLL1, charge pump 1.", 36 OSCin (in) "Feedback to PLL1, Reference input to PLL2. AC Coupled.", 37 OSCin* (in) "Feedback to PLL1, Reference input to PLL2. AC Coupled.", 38 Vcc7 (power) "Power supply for OSCin port.", 39 OSCout0 (out) "Buffered output 0 of OSCin port.", 40 OSCout0* (out) "Buffered output 0 of OSCin port.", 41 Vcc8 (power) "Power supply for PLL2, charge pump 2.", 42 CPout2 (out) "Charge pump 2 output.", 43 Vcc9 (power) "Power supply for PLL2.", 44 LEuWire (in) "MICROWIRE Latch Enable Input.", 45 CLKuWire (in) "MICROWIRE Clock Input.", 46 DATAuWire (in) "MICROWIRE Data Input.", 47 Vcc10 (power) "Power supply for clock group 3: CLKout6 and CLKout7.", 48 CLKout6 (out) "Clock output 6 (clock group 3).", 49 CLKout6* (out) "Clock output 6 (clock group 3).", 50 CLKout7* (out) "Clock output 7 (clock group 3).", 51 CLKout7 (out) "Clock output 7 (clock group 3).", 52 Vcc11 (power) "Power supply for clock group 4: CLKout8 and CLKout9.", 53 CLKout8 (out) "Clock output 8 (clock group 4).", 54 CLKout8* (out) "Clock output 8 (clock group 4).", 55 CLKout9* (out) "Clock output 9 (clock group 4).", 56 CLKout9 (out) "Clock output 9 (clock group 4).", 57 Vcc12 (power) "Power supply for clock group 5: CLKout10 and CLKout11.", 58 CLKout10 (out) "Clock output 10 (clock group 5).", 59 CLKout10* (out) "Clock output 10 (clock group 5).", 60 CLKout11* (out) "Clock output 11 (clock group 5).", 61 CLKout11 (out) "Clock output 11 (clock group 5).", 62 Status_CLKin0 (io) "Programmable status pin. Default is input for pin control of PLL1 reference clock selection.", 63 Status_CLKin1 (io) "Programmable status pin. Default is input for pin control of PLL1 reference clock selection.", 64 Vcc13 (power) "Power supply for clock group 0: CLKout0 and CLKout1.", 65 DAP (power) "Die attach pad, connect to GND."

## LMK04805BISQE/NOPB
designator U?
Precision Clock Conditioners Low-Noise Clock Jitter Cleaner with Dual Loop PLLs, 2148-2370MHz VCO, 64-pin LLP, 250 Reel; PartNumber: LMK04805BISQE/NOPB; Manufacturer: National Semiconductor; PackageTopMarking: NS*UZXYTTE#*K04805BISQ; PowerWise: N; CompType: Interface IC; High-Reliability: Y; DatasheetVersion: Mar-2011; PackageVersion: revA, Apr-2006; PackageReference: SQA64A; PackageDescription: LLP, Quad, 9 x 9 x 0.8mm, 64 Lead, 0.5mm Pitch, No Pullback; RoHS: Y; PinCount: 64; ComponentLink1Description: Manufacturer URL; ComponentLink1URL: http://www.national.com/; ComponentLink2Description: LMK04800 Datasheet; ComponentLink2URL: http://www.national.com/ds/LM/LMK04800.pdf; ComponentLink3Description: LMK04800 Web Page; ComponentLink3URL: http://www.national.com/pf/LM/LMK04800.html; ComponentLink4Description: SQA64A Package Page; ComponentLink4URL: http://www.national.com/packaging/folders/sqa64a.html
footprint SQA64A (QFN, 64-Leads, Body 9x9mm, Pitch 0.5mm, Thermal Pad 7.2x7.2mm, NSC Recommended)
pins: 1 CLKout0 (out) "Clock output 0 (clock group 0).", 2 CLKout0* (out) "Clock output 0 (clock group 0).", 3 CLKout1* (out) "Clock output 1 (clock group 0).", 4 CLKout1 (out) "Clock output 1 (clock group 0).", 5 NC (power) "No Connection. This pin must be left floating.", 6 SYNC (io) "CLKout Synchronization input or programmable status pin.", 7 NC (power) "No Connection. This pin must be left floating.", 8 NC (power) "No Connection. This pin must be left floating.", 9 NC (power) "No Connection. This pin must be left floating.", 10 Vcc1 (power) "Power supply for VCO LDO.", 11 LDObyp1 (power) "LDO Bypass, bypassed to ground with 10 µF capacitor.", 12 LDObyp2 (power) "LDO Bypass, bypassed to ground with a 0.1 µF capacitor.", 13 CLKout2 (out) "Clock output 2 (clock group 1).", 14 CLKout2* (out) "Clock output 2 (clock group 1).", 15 CLKout3* (out) "Clock output 3 (clock group 1).", 16 CLKout3 (out) "Clock output 3 (clock group 1).", 17 Vcc2 (power) "Power supply for clock group 1: CLKout2 and CLKout3.", 18 Vcc3 (power) "Power supply for clock group 2: CLKout4 and CLKout5.", 19 CLKout4 (out) "Clock output 4 (clock group 2).", 20 CLKout4* (out) "Clock output 4 (clock group 2).", 21 CLKout5* (out) "Clock output 5 (clock group 2).", 22 CLKout5 (out) "Clock output 5 (clock group 2).", 23 GND (power) "Ground", 24 Vcc4 (power) "Power supply for digital.", 25 FBCLKin/Fin/CLKin1 (in) "Reference Clock Input Port 1 for PLL1. Feedback input for external clock feedback input (0-delay mode). External VCO input (External VCO mode). AC or DC Coupled.", 26 FBCLKin*/Fin*/CLKin1* (in) "Reference Clock Input Port 1 for PLL1. Feedback input for external clock feedback input (0-delay mode). External VCO input (External VCO mode). AC or DC Coupled.", 27 Status_Holdover (io) "Programmable status pin, default readback output. Programmable to holdover mode indicator.", 28 CLKin0 (in) "Reference Clock Input Port 0 for PLL1. AC or DC Coupled.", 29 CLKin0* (in) "Reference Clock Input Port 0 for PLL1. AC or DC Coupled.", 30 Vcc5 (power) "Power supply for clock inputs.", 31 OSCout1 (out) "Buffered output 1 of OSCin port.", 32 OSCout1* (out) "Buffered output 1 of OSCin port.", 33 Status_LD (io) "Programmable status pin, default lock detect for PLL1 and PLL2.", 34 CPout1 (out) "Charge pump 1 output.", 35 Vcc6 (power) "Power supply for PLL1, charge pump 1.", 36 OSCin (in) "Feedback to PLL1, Reference input to PLL2. AC Coupled.", 37 OSCin* (in) "Feedback to PLL1, Reference input to PLL2. AC Coupled.", 38 Vcc7 (power) "Power supply for OSCin port.", 39 OSCout0 (out) "Buffered output 0 of OSCin port.", 40 OSCout0* (out) "Buffered output 0 of OSCin port.", 41 Vcc8 (power) "Power supply for PLL2, charge pump 2.", 42 CPout2 (out) "Charge pump 2 output.", 43 Vcc9 (power) "Power supply for PLL2.", 44 LEuWire (in) "MICROWIRE Latch Enable Input.", 45 CLKuWire (in) "MICROWIRE Clock Input.", 46 DATAuWire (in) "MICROWIRE Data Input.", 47 Vcc10 (power) "Power supply for clock group 3: CLKout6 and CLKout7.", 48 CLKout6 (out) "Clock output 6 (clock group 3).", 49 CLKout6* (out) "Clock output 6 (clock group 3).", 50 CLKout7* (out) "Clock output 7 (clock group 3).", 51 CLKout7 (out) "Clock output 7 (clock group 3).", 52 Vcc11 (power) "Power supply for clock group 4: CLKout8 and CLKout9.", 53 CLKout8 (out) "Clock output 8 (clock group 4).", 54 CLKout8* (out) "Clock output 8 (clock group 4).", 55 CLKout9* (out) "Clock output 9 (clock group 4).", 56 CLKout9 (out) "Clock output 9 (clock group 4).", 57 Vcc12 (power) "Power supply for clock group 5: CLKout10 and CLKout11.", 58 CLKout10 (out) "Clock output 10 (clock group 5).", 59 CLKout10* (out) "Clock output 10 (clock group 5).", 60 CLKout11* (out) "Clock output 11 (clock group 5).", 61 CLKout11 (out) "Clock output 11 (clock group 5).", 62 Status_CLKin0 (io) "Programmable status pin. Default is input for pin control of PLL1 reference clock selection.", 63 Status_CLKin1 (io) "Programmable status pin. Default is input for pin control of PLL1 reference clock selection.", 64 Vcc13 (power) "Power supply for clock group 0: CLKout0 and CLKout1.", 65 DAP (power) "Die attach pad, connect to GND."

## LMK04806BISQ/NOPB
designator U?
Precision Clock Conditioners Low-Noise Clock Jitter Cleaner with Dual Loop PLLs, 2370-2600MHz VCO, 64-pin LLP, 1000 Reel; PartNumber: LMK04806BISQ/NOPB; Manufacturer: National Semiconductor; PackageTopMarking: NS*UZXYTTE#*K04806BISQ; PowerWise: N; CompType: Interface IC; High-Reliability: Y; DatasheetVersion: Mar-2011; PackageVersion: revA, Apr-2006; PackageReference: SQA64A; PackageDescription: LLP, Quad, 9 x 9 x 0.8mm, 64 Lead, 0.5mm Pitch, No Pullback; RoHS: Y; PinCount: 64; ComponentLink1Description: Manufacturer URL; ComponentLink1URL: http://www.national.com/; ComponentLink2Description: LMK04800 Datasheet; ComponentLink2URL: http://www.national.com/ds/LM/LMK04800.pdf; ComponentLink3Description: LMK04800 Web Page; ComponentLink3URL: http://www.national.com/pf/LM/LMK04800.html; ComponentLink4Description: SQA64A Package Page; ComponentLink4URL: http://www.national.com/packaging/folders/sqa64a.html
footprint SQA64A (QFN, 64-Leads, Body 9x9mm, Pitch 0.5mm, Thermal Pad 7.2x7.2mm, NSC Recommended)
pins: 1 CLKout0 (out) "Clock output 0 (clock group 0).", 2 CLKout0* (out) "Clock output 0 (clock group 0).", 3 CLKout1* (out) "Clock output 1 (clock group 0).", 4 CLKout1 (out) "Clock output 1 (clock group 0).", 5 NC (power) "No Connection. This pin must be left floating.", 6 SYNC (io) "CLKout Synchronization input or programmable status pin.", 7 NC (power) "No Connection. This pin must be left floating.", 8 NC (power) "No Connection. This pin must be left floating.", 9 NC (power) "No Connection. This pin must be left floating.", 10 Vcc1 (power) "Power supply for VCO LDO.", 11 LDObyp1 (power) "LDO Bypass, bypassed to ground with 10 µF capacitor.", 12 LDObyp2 (power) "LDO Bypass, bypassed to ground with a 0.1 µF capacitor.", 13 CLKout2 (out) "Clock output 2 (clock group 1).", 14 CLKout2* (out) "Clock output 2 (clock group 1).", 15 CLKout3* (out) "Clock output 3 (clock group 1).", 16 CLKout3 (out) "Clock output 3 (clock group 1).", 17 Vcc2 (power) "Power supply for clock group 1: CLKout2 and CLKout3.", 18 Vcc3 (power) "Power supply for clock group 2: CLKout4 and CLKout5.", 19 CLKout4 (out) "Clock output 4 (clock group 2).", 20 CLKout4* (out) "Clock output 4 (clock group 2).", 21 CLKout5* (out) "Clock output 5 (clock group 2).", 22 CLKout5 (out) "Clock output 5 (clock group 2).", 23 GND (power) "Ground", 24 Vcc4 (power) "Power supply for digital.", 25 FBCLKin/Fin/CLKin1 (in) "Reference Clock Input Port 1 for PLL1. Feedback input for external clock feedback input (0-delay mode). External VCO input (External VCO mode). AC or DC Coupled.", 26 FBCLKin*/Fin*/CLKin1* (in) "Reference Clock Input Port 1 for PLL1. Feedback input for external clock feedback input (0-delay mode). External VCO input (External VCO mode). AC or DC Coupled.", 27 Status_Holdover (io) "Programmable status pin, default readback output. Programmable to holdover mode indicator.", 28 CLKin0 (in) "Reference Clock Input Port 0 for PLL1. AC or DC Coupled.", 29 CLKin0* (in) "Reference Clock Input Port 0 for PLL1. AC or DC Coupled.", 30 Vcc5 (power) "Power supply for clock inputs.", 31 OSCout1 (out) "Buffered output 1 of OSCin port.", 32 OSCout1* (out) "Buffered output 1 of OSCin port.", 33 Status_LD (io) "Programmable status pin, default lock detect for PLL1 and PLL2.", 34 CPout1 (out) "Charge pump 1 output.", 35 Vcc6 (power) "Power supply for PLL1, charge pump 1.", 36 OSCin (in) "Feedback to PLL1, Reference input to PLL2. AC Coupled.", 37 OSCin* (in) "Feedback to PLL1, Reference input to PLL2. AC Coupled.", 38 Vcc7 (power) "Power supply for OSCin port.", 39 OSCout0 (out) "Buffered output 0 of OSCin port.", 40 OSCout0* (out) "Buffered output 0 of OSCin port.", 41 Vcc8 (power) "Power supply for PLL2, charge pump 2.", 42 CPout2 (out) "Charge pump 2 output.", 43 Vcc9 (power) "Power supply for PLL2.", 44 LEuWire (in) "MICROWIRE Latch Enable Input.", 45 CLKuWire (in) "MICROWIRE Clock Input.", 46 DATAuWire (in) "MICROWIRE Data Input.", 47 Vcc10 (power) "Power supply for clock group 3: CLKout6 and CLKout7.", 48 CLKout6 (out) "Clock output 6 (clock group 3).", 49 CLKout6* (out) "Clock output 6 (clock group 3).", 50 CLKout7* (out) "Clock output 7 (clock group 3).", 51 CLKout7 (out) "Clock output 7 (clock group 3).", 52 Vcc11 (power) "Power supply for clock group 4: CLKout8 and CLKout9.", 53 CLKout8 (out) "Clock output 8 (clock group 4).", 54 CLKout8* (out) "Clock output 8 (clock group 4).", 55 CLKout9* (out) "Clock output 9 (clock group 4).", 56 CLKout9 (out) "Clock output 9 (clock group 4).", 57 Vcc12 (power) "Power supply for clock group 5: CLKout10 and CLKout11.", 58 CLKout10 (out) "Clock output 10 (clock group 5).", 59 CLKout10* (out) "Clock output 10 (clock group 5).", 60 CLKout11* (out) "Clock output 11 (clock group 5).", 61 CLKout11 (out) "Clock output 11 (clock group 5).", 62 Status_CLKin0 (io) "Programmable status pin. Default is input for pin control of PLL1 reference clock selection.", 63 Status_CLKin1 (io) "Programmable status pin. Default is input for pin control of PLL1 reference clock selection.", 64 Vcc13 (power) "Power supply for clock group 0: CLKout0 and CLKout1.", 65 DAP (power) "Die attach pad, connect to GND."